# Altium schematic symbol library 1N5819HW7.SchLib: 2 symbols
Pins are listed as number, name and electrical type; pins without a type are passive.

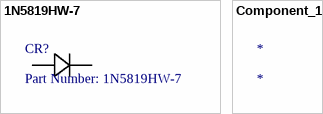
[diagram p0: symbols 1N5819HW-7 to Component_1]

## 1N5819HW-7
designator CR?, comment Part Number: 1N5819HW-7
No Description Available; Vendor: Diodes Inc; Built_By: EMA_UL_Team; Type: DEV; Manufacturer_Part_Number: 1N5819HW-7; Copyright: Copyright (C) 2018 Accelerated Designs. All rights reserved; RefDes: RefDes; Value: Value
footprint SOD123
pins: 1, 2

## Component_1
designator *